# Altium footprint library parts.PCBLIB: 50 footprints (part 2 of 4)
Each footprint in its own frame and in the unit in brackets; x right, y up, seen from the top. Pads: shape width x height; smd on the part's side, far side on the other; paste and mask are expansions set on the pad; w line width, h text height; cw(c..) or ccw(c..) is an arc to the next point about the centre after c.
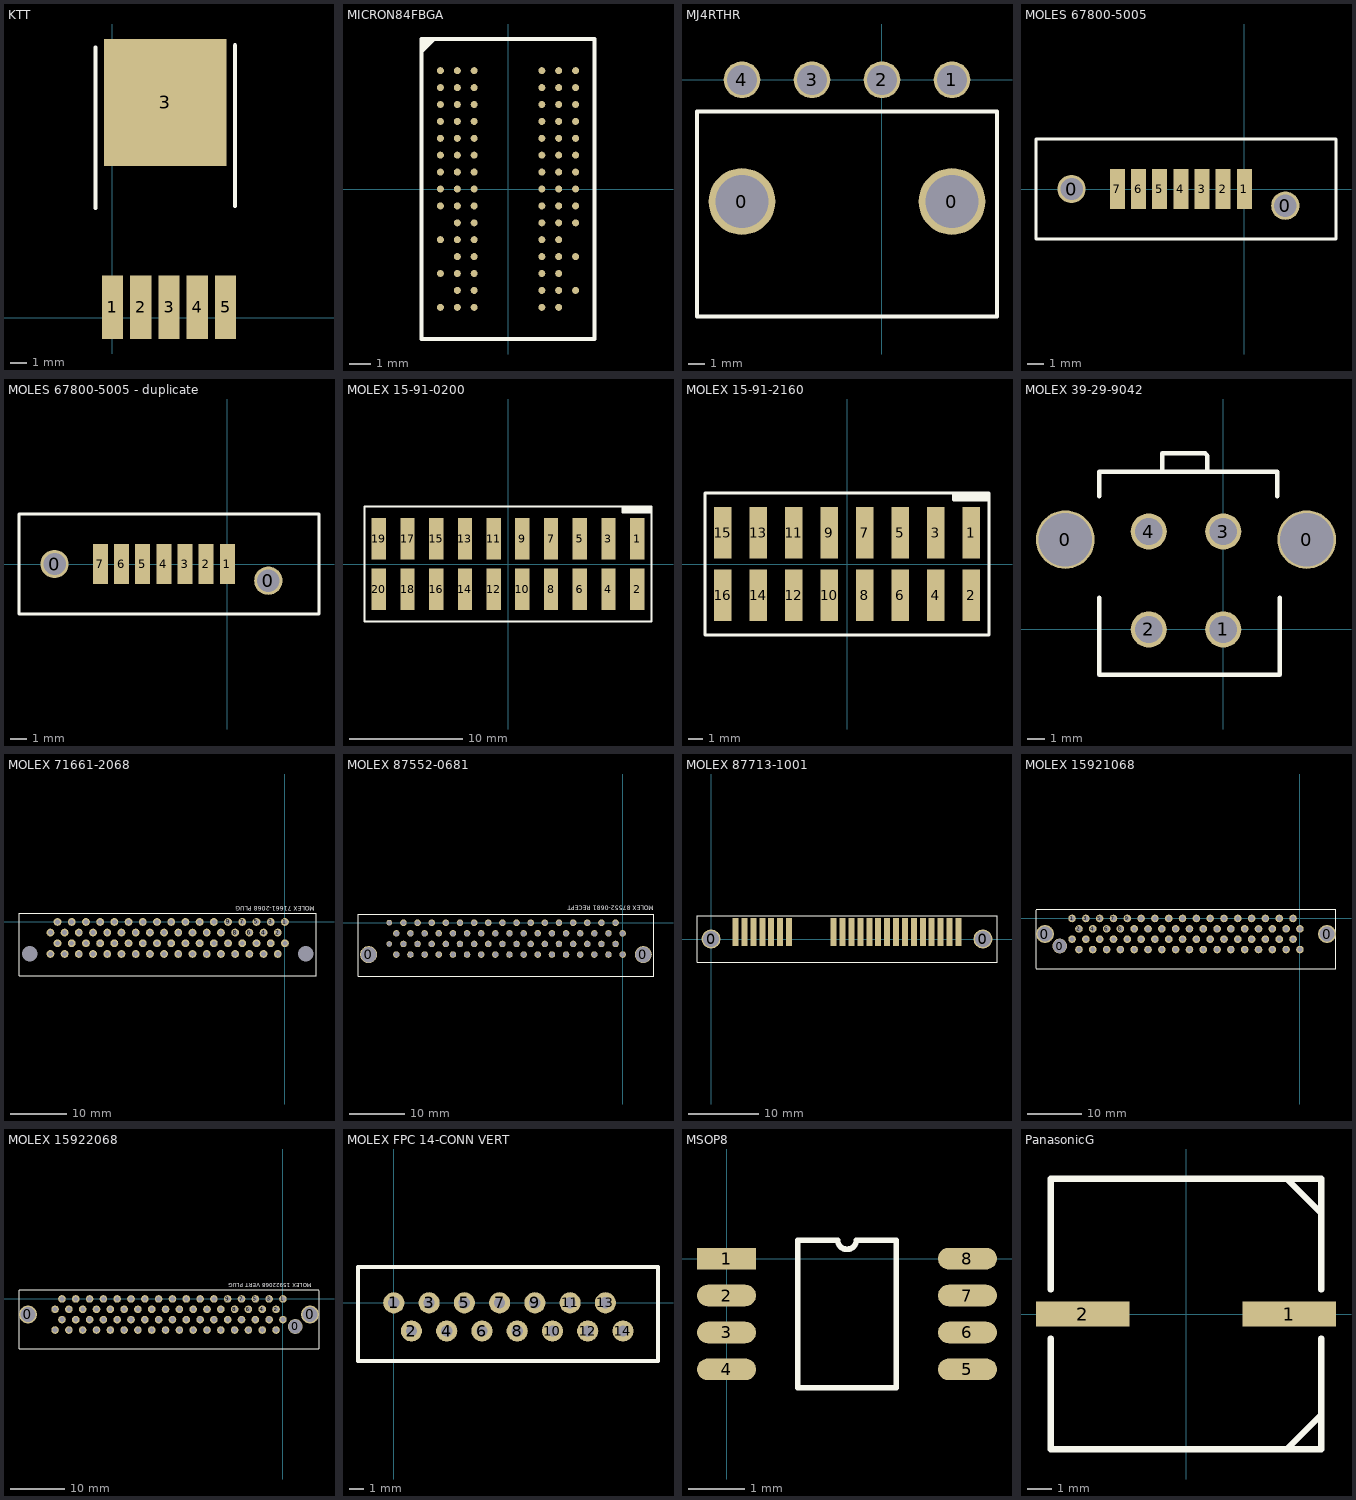
[diagram p1: the footprints below, top view; thin cyan lines are the x and y axes]

## KTT [mil] "TI DDPAK-5"
pads (6):
  rect 50x150 smd: 1(0,25) 2(67,25) 3(134,25) 4(201,25) 5(268,25)
  rect 290x300 smd: 3(125,510)
Top Overlay:
  lines w10: -40,260 -40,640 ; 290,265 290,645

## MICRON84FBGA [mm]
pads (84):
  round 0.33 smd paste-0.508 mask+0.15: A1(-3.2,5.6) A2(-2.4,5.6) A3(-1.6,5.6) A7(1.6,5.6) A8(2.4,5.6) A9(3.2,5.6) B1(-3.2,4.8) B2(-2.4,4.8) B3(-1.6,4.8) B7(1.6,4.8) B8(2.4,4.8) B9(3.2,4.8) C1(-3.2,4) C2(-2.4,4) C3(-1.6,4) C7(1.6,4) C8(2.4,4) C9(3.2,4) D1(-3.2,3.2) D2(-2.4,3.2) D3(-1.6,3.2) D7(1.6,3.2) D8(2.4,3.2) D9(3.2,3.2) E1(-3.2,2.4) E2(-2.4,2.4) E3(-1.6,2.4) E7(1.6,2.4) E8(2.4,2.4) E9(3.2,2.4) F1(-3.2,1.6) F2(-2.4,1.6) F3(-1.6,1.6) F7(1.6,1.6) F8(2.4,1.6) F9(3.2,1.6) G1(-3.2,0.8) G2(-2.4,0.8) G3(-1.6,0.8) G7(1.6,0.8) G8(2.4,0.8) G9(3.2,0.8) H1(-3.2,0) H2(-2.4,0) H3(-1.6,0) H7(1.6,0) H8(2.4,0) H9(3.2,0) J1(-3.2,-0.8) J2(-2.4,-0.8) J3(-1.6,-0.8) J7(1.6,-0.8) J8(2.4,-0.8) J9(3.2,-0.8) K2(-2.4,-1.6) K3(-1.6,-1.6) K7(1.6,-1.6) K8(2.4,-1.6) K9(3.2,-1.6) L1(-3.2,-2.4) L2(-2.4,-2.4) L3(-1.6,-2.4) L7(1.6,-2.4) L8(2.4,-2.4) M2(-2.4,-3.2) M3(-1.6,-3.2) M7(1.6,-3.2) M8(2.4,-3.2) M9(3.2,-3.2) N1(-3.2,-4) N2(-2.4,-4) N3(-1.6,-4) N7(1.6,-4) N8(2.4,-4) P1(3.2,-4.8) P2(-2.4,-4.8) P3(-1.6,-4.8) P7(1.6,-4.8) P8(2.4,-4.8) R1(-3.2,-5.6) R2(-2.4,-5.6) R3(-1.6,-5.6) R7(1.6,-5.6) R8(2.4,-5.6)
Top Overlay:
  lines w0.178: -4.1,6.4 -4.1,6.5 -3.5,7.1 ; -4.1,6.7 -3.7,7.1 -3.6,7.1 ; -4.1,6.9 -3.9,7.1 -3.8,7.1 ; -4.1,-7.1 4.1,-7.1 4.1,7.1 -4.1,7.1 -4.1,-7.1

## MJ4RTHR [mm]
pads (6):
  round 4 hole 3.2: 0(-8.4,-7.3) 0(4.2,-7.3)
  round 2.2 hole 1.8: 1(4.2,0) 2(0,0) 3(-4.2,0) 4(-8.4,0)
Top Overlay:
  lines w0.254: -11.1,-14.2 6.9,-14.2 6.9,-1.9 -11.1,-1.9 -11.1,-14.2

## MOLES 67800-5005 [mm] "SATA vertical PCB HEADER SMT"
pads (9):
  round 1.7 hole 1.35: 0(-10.37,0) 0(2.46,-1)
  rect 0.9x2.4 smd: 1(0,0) 2(-1.27,0) 3(-2.54,0) 4(-3.81,0) 5(-5.08,0) 6(-6.35,0) 7(-7.62,0)
Top Overlay:
  lines w0.178: -12.5,-3 5.5,-3 ; -12.5,-3 5.5,-3 ; -12.5,-3 -12.5,3 5.5,3 5.5,-3

## MOLES 67800-5005 - duplicate [mm] "SATA vertical PCB HEADER SMT"
pads (9):
  round 1.7 hole 1.35: 0(-10.37,0) 0(2.46,-1)
  rect 0.9x2.4 smd: 1(0,0) 2(-1.27,0) 3(-2.54,0) 4(-3.81,0) 5(-5.08,0) 6(-6.35,0) 7(-7.62,0)
Top Overlay:
  lines w0.178: -12.5,-3 5.5,-3 ; -12.5,-3 5.5,-3 ; -12.5,-3 -12.5,3 5.5,3 5.5,-3

## MOLEX 15-91-0200 [mm] "SMT 100-mil pitch 20-pin dual-row header"
pads (20):
  rect 1.27x3.68 smd: 1(11.43,2.22) 2(11.43,-2.22) 3(8.89,2.22) 4(8.89,-2.22) 5(6.35,2.22) 6(6.35,-2.22) 7(3.81,2.22) 8(3.81,-2.22) 9(1.27,2.22) 10(1.27,-2.22) 11(-1.27,2.22) 12(-1.27,-2.22) 13(-3.81,2.22) 14(-3.81,-2.22) 15(-6.35,2.22) 16(-6.35,-2.22) 17(-8.89,2.22) 18(-8.89,-2.22) 19(-11.43,2.22) 20(-11.43,-2.22)
Top Overlay:
  lines w0.203: 10.16,5.08 10.16,4.572 12.7,4.572 ; 10.287,4.699 12.7,4.699 ; 12.7,4.826 10.16,4.826 10.287,4.953 12.7,4.953 ; -12.7,-5.08 -12.7,5.08 12.7,5.08 12.7,-5.08 -12.7,-5.08

## MOLEX 15-91-2160 [mm] "SMT 100-mil pitch 16 -pin dual-row header"
pads (16):
  rect 1.27x3.68 smd: 1(8.89,2.22) 2(8.89,-2.22) 3(6.35,2.22) 4(6.35,-2.22) 5(3.81,2.22) 6(3.81,-2.22) 7(1.27,2.22) 8(1.27,-2.22) 9(-1.27,2.22) 10(-1.27,-2.22) 11(-3.81,2.22) 12(-3.81,-2.22) 13(-6.35,2.22) 14(-6.35,-2.22) 15(-8.89,2.22) 16(-8.89,-2.22)
Top Overlay:
  lines w0.203: 7.62,5.08 7.62,4.572 10.16,4.572 ; 7.747,4.699 10.16,4.699 ; 10.16,4.826 7.62,4.826 7.747,4.953 10.16,4.953 ; -10.16,-5.08 -10.16,5.08 10.16,5.08 10.16,-5.08 -10.16,-5.08

## MOLEX 39-29-9042 [mil] "Molex 4-pin ATX VCC2 header"
pads (6):
  round 130 hole 118 paste-20 mask+30: 0(-350,199) 0(185,199)
  round 80 hole 60: 1(0,0) 2(-165,0) 3(0,217) 4(-165,217)
Top Overlay:
  lines w10: -275,70 -275,-100 125,-100 125,70 ; -275,295 -275,350 75,350 100,350 120,350 120,295 ; -135,350 -135,390 -40,390 -35,385 -35,350

## MOLEX 71661-2068 [mil] "Moles 68-pin EBBI 50 mil right angle plug connector, same as U320 SCSI"
pads (70):
  round 46 hole 110: 0(-1796,-225) 0(146,-225)
  round 55 hole 35: 1(0,0) 2(-50,-75) 3(-100,0) 4(-150,-75) 5(-200,0) 6(-250,-75) 7(-300,0) 8(-350,-75) 9(-400,0) 10(-450,-75) 11(-500,0) 12(-550,-75) 13(-600,0) 14(-650,-75) 15(-700,0) 16(-750,-75) 17(-800,0) 18(-850,-75) 19(-900,0) 20(-950,-75) 21(-1000,0) 22(-1050,-75) 23(-1100,0) 24(-1150,-75) 25(-1200,0) 26(-1250,-75) 27(-1300,0) 28(-1350,-75) 29(-1400,0) 30(-1450,-75) 31(-1500,0) 32(-1550,-75) 33(-1600,0) 34(-1650,-75) 35(0,-150) 36(-50,-225) 37(-100,-150) 38(-150,-225) 39(-200,-150) 40(-250,-225) 41(-300,-150) 42(-350,-225) 43(-400,-150) 44(-450,-225) 45(-500,-150) 46(-550,-225) 47(-600,-150) 48(-650,-225) 49(-700,-150) 50(-750,-225) 51(-800,-150) 52(-850,-225) 53(-900,-150) 54(-950,-225) 55(-1000,-150) 56(-1050,-225) 57(-1100,-150) 58(-1150,-225) 59(-1200,-150) 60(-1250,-225) 61(-1300,-150) 62(-1350,-225) 63(-1400,-150) 64(-1450,-225) 65(-1500,-150) 66(-1550,-225) 67(-1600,-150) 68(-1650,-225)
Top Overlay:
  lines w8: -1871,-380.12 221,-380.12 221,60 -1871,60 -1871,-380.12
  text "MOLEX 71661-2068 PLUG" at 210,110 h30

## MOLEX 87552-0681 [mil] "Moles 68-pin EBBI 50 mil right angle recepticle connector"
pads (70):
  round 120 hole 110: 0(-1796,-225) 0(146,-225)
  round 40 hole 35: 1(-1650,0) 35(-1650,-150)
  round 46 hole 35: 2(-1600,-75) 3(-1550,0) 4(-1500,-75) 5(-1450,0) 6(-1400,-75) 7(-1350,0) 8(-1300,-75) 9(-1250,0) 10(-1200,-75) 11(-1150,0) 12(-1100,-75) 13(-1050,0) 14(-1000,-75) 15(-950,0) 16(-900,-75) 17(-850,0) 18(-800,-75) 19(-750,0) 20(-700,-75) 21(-650,0) 22(-600,-75) 23(-550,0) 24(-500,-75) 25(-450,0) 26(-400,-75) 27(-350,0) 28(-300,-75) 29(-250,0) 30(-200,-75) 31(-150,0) 32(-100,-75) 33(-50,0) 34(0,-75) 36(-1600,-225) 37(-1550,-150) 38(-1500,-225) 39(-1450,-150) 40(-1400,-225) 41(-1350,-150) 42(-1300,-225) 43(-1250,-150) 44(-1200,-225) 45(-1150,-150) 46(-1100,-225) 47(-1050,-150) 48(-1000,-225) 49(-950,-150) 50(-900,-225) 51(-850,-150) 52(-800,-225) 53(-750,-150) 54(-700,-225) 55(-650,-150) 56(-600,-225) 57(-550,-150) 58(-500,-225) 59(-450,-150) 60(-400,-225) 61(-350,-150) 62(-300,-225) 63(-250,-150) 64(-200,-225) 65(-150,-150) 66(-100,-225) 67(-50,-150) 68(0,-225)
Top Overlay:
  lines w8: -1871,-380.12 221,-380.12 221,60 -1871,60 -1871,-380.12
  text "MOLEX 87552-0681 RECEPT" at 220,120 h30

## MOLEX 87713-1001 [mm] "Molex Serial ATA Backplane Std. Height"
pads (24):
  round 2.7 hole 2.3: 0(0,0) 0(38.73,0)
  rect 0.85x4 smd: 1(3.49,1) 2(4.76,1) 3(6.03,1) 4(7.3,1) 5(8.57,1) 6(9.84,1) 7(11.11,1) P1(17.46,1) P2(18.73,1) P3(20,1) P4(21.27,1) P5(22.54,1) P6(23.81,1) P7(25.08,1) P8(26.35,1) P9(27.62,1) P10(28.89,1) P11(30.16,1) P12(31.43,1) P13(32.7,1) P14(33.97,1) P15(35.24,1)
Top Overlay:
  lines w0.178: -2,-3.3 -2,3.3 40.73,3.3 40.73,-3.3 -2,-3.3

## MOLEX 15921068 [mil]
pads (71):
  round 130 hole 110: 0(-1846,-112.5) 0(196,-112.5)
  round 106.3 hole 98.43: 0(-1739.37,-199.41)
  round 55 hole 35: 1(-1650,0) 2(-1600,-75) 3(-1550,0) 4(-1500,-75) 5(-1450,0) 6(-1400,-75) 7(-1350,0) 8(-1300,-75) 9(-1250,0) 10(-1200,-75) 11(-1150,0) 12(-1100,-75) 13(-1050,0) 14(-1000,-75) 15(-950,0) 16(-900,-75) 17(-850,0) 18(-800,-75) 19(-750,0) 20(-700,-75) 21(-650,0) 22(-600,-75) 23(-550,0) 24(-500,-75) 25(-450,0) 26(-400,-75) 27(-350,0) 28(-300,-75) 29(-250,0) 30(-200,-75) 31(-150,0) 32(-100,-75) 33(-50,0) 34(0,-75) 35(-1650,-150) 36(-1600,-225) 37(-1550,-150) 38(-1500,-225) 39(-1450,-150) 40(-1400,-225) 41(-1350,-150) 42(-1300,-225) 43(-1250,-150) 44(-1200,-225) 45(-1150,-150) 46(-1100,-225) 47(-1050,-150) 48(-1000,-225) 49(-950,-150) 50(-900,-225) 51(-850,-150) 52(-800,-225) 53(-750,-150) 54(-700,-225) 55(-650,-150) 56(-600,-225) 57(-550,-150) 58(-500,-225) 59(-450,-150) 60(-400,-225) 61(-350,-150) 62(-300,-225) 63(-250,-150) 64(-200,-225) 65(-150,-150) 66(-100,-225) 67(-50,-150) 68(0,-225)
Top Overlay:
  lines w8: -1911,-360 -1911,60 ; -1909.84,-362.2 259.45,-362.2 ; -1909.84,65 260.61,65 ; 260.08,-360 260.08,62.17

## MOLEX 15922068 [mil]
pads (71):
  round 130 hole 110: 0(-1846,-112.5) 0(196,-112.5)
  round 106.3 hole 98.43: 0(89.37,-199.41)
  round 55 hole 35: 1(0,0) 2(-50,-75) 3(-100,0) 4(-150,-75) 5(-200,0) 6(-250,-75) 7(-300,0) 8(-350,-75) 9(-400,0) 10(-450,-75) 11(-500,0) 12(-550,-75) 13(-600,0) 14(-650,-75) 15(-700,0) 16(-750,-75) 17(-800,0) 18(-850,-75) 19(-900,0) 20(-950,-75) 21(-1000,0) 22(-1050,-75) 23(-1100,0) 24(-1150,-75) 25(-1200,0) 26(-1250,-75) 27(-1300,0) 28(-1350,-75) 29(-1400,0) 30(-1450,-75) 31(-1500,0) 32(-1550,-75) 33(-1600,0) 34(-1650,-75) 35(0,-150) 36(-50,-225) 37(-100,-150) 38(-150,-225) 39(-200,-150) 40(-250,-225) 41(-300,-150) 42(-350,-225) 43(-400,-150) 44(-450,-225) 45(-500,-150) 46(-550,-225) 47(-600,-150) 48(-650,-225) 49(-700,-150) 50(-750,-225) 51(-800,-150) 52(-850,-225) 53(-900,-150) 54(-950,-225) 55(-1000,-150) 56(-1050,-225) 57(-1100,-150) 58(-1150,-225) 59(-1200,-150) 60(-1250,-225) 61(-1300,-150) 62(-1350,-225) 63(-1400,-150) 64(-1450,-225) 65(-1500,-150) 66(-1550,-225) 67(-1600,-150) 68(-1650,-225)
Top Overlay:
  lines w8: -1910.61,65 259.84,65 ; -1910.08,-360 -1910.08,62.16 ; -1909.45,-362.2 259.84,-362.2 ; 261,-360 261,60
  text "MOLEX 15922068 VERT PLUG" at 208.66,114.17 h30

## MOLEX FPC 14-CONN VERT [mm] "Molex FPC connector, ZIF, vertical, 1.25 mm pitch, 14 connector"
pads (14):
  round 1.5 hole 0.8: 1(0,0) 2(1.25,-2) 3(2.5,0) 4(3.75,-2) 5(5,0) 6(6.25,-2) 7(7.5,0) 8(8.75,-2) 9(10,0) 10(11.25,-2) 11(12.5,0) 12(13.75,-2) 13(15,0) 14(16.25,-2)
Top Overlay:
  lines w0.254: -2.54,-4.127 -2.54,2.54 -2.222,2.54 18.732,2.54 18.732,-4.127 -2.54,-4.127

## MSOP8 [mm]
pads (8):
  rect 1.04x0.38 smd: 1(0,0)
  oval 1.04x0.38 smd: 2(0,-0.65) 3(0,-1.3) 4(0,-1.95) 5(4.24,-1.95) 6(4.24,-1.3) 7(4.24,-0.65) 8(4.24,0)
Top Overlay:
  lines w0.1: 1.255,-2.275 2.985,-2.275 2.985,0.325 2.282,0.325 cw(c2.12,0.325) 1.957,0.325 1.255,0.325 1.255,-2.275

## PanasonicG [mm]
pads (2):
  rect 3.8x1 smd: 1(4.2,0) 2(-4.2,0)
Top Overlay:
  lines w0.254: -5.5,-1 -5.5,-5.5 -5.2,-5.5 5.5,-5.5 5.5,-1 ; -5.5,1 -5.5,5.5 5.5,5.5 5.5,1 ; 3.5,-5.5 4.1,-5.5 5.5,-4.1 ; 4.1,5.5 5.5,4.1 5.5,3.5